# Altium footprint library 脉诊.PcbLib: 9 footprints
Each footprint in its own frame and in the unit in brackets; x right, y up, seen from the top. Pads: shape width x height; smd on the part's side, far side on the other; paste and mask are expansions set on the pad; w line width, h text height; cw(c..) or ccw(c..) is an arc to the next point about the centre after c.
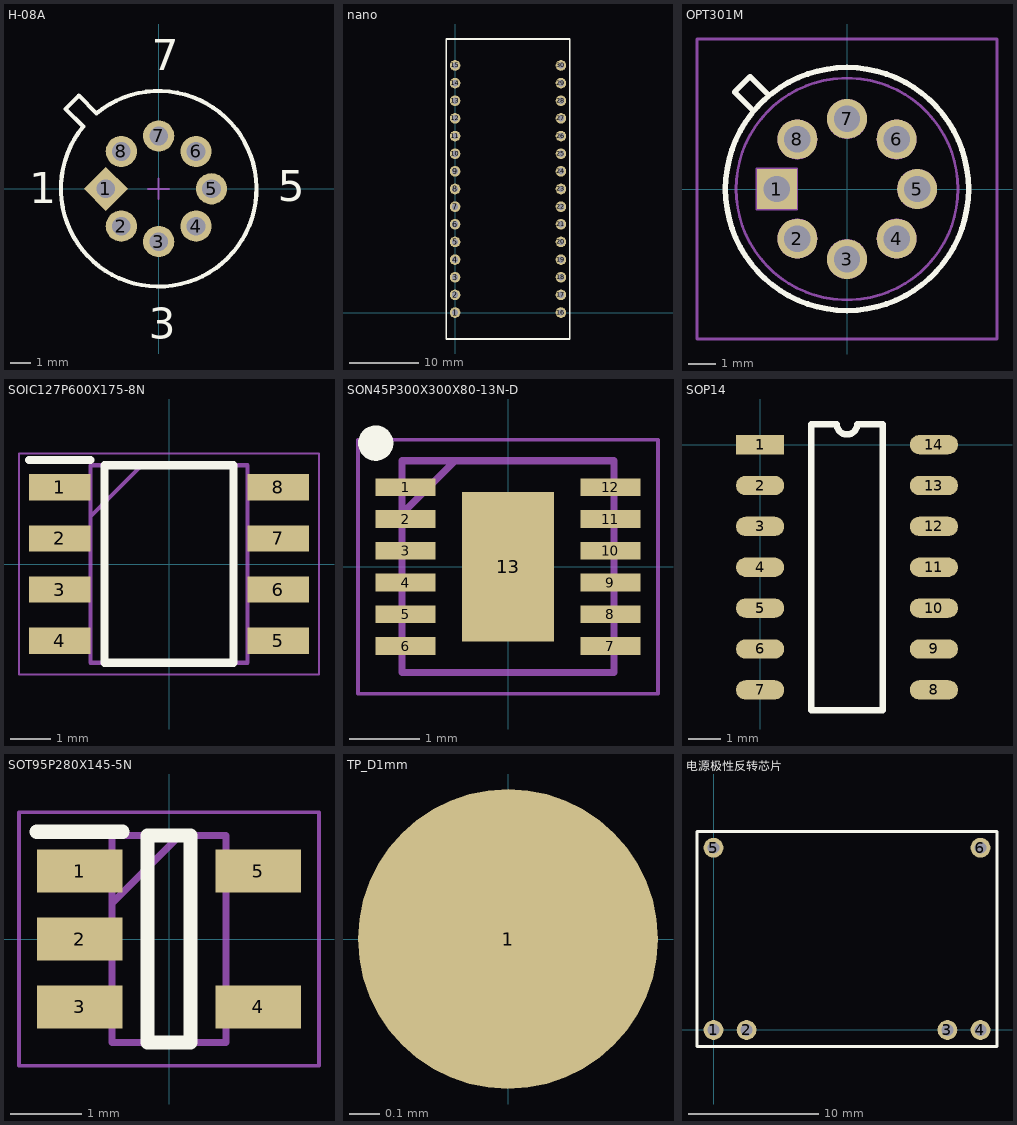
[diagram p0: the footprints below, top view; thin cyan lines are the x and y axes]

## H-08A [mm] "Can; 8 Leads; Pin Circle Dia. 5.08 mm; Lead Dia. 0.53 mm (max)"
height 4.7
pads (8):
  rect 1.5x1.5 hole 0.9 rot 45: 1(-2.54,0)
  round 1.5 hole 0.9: 2(-1.796,-1.796) 3(0,-2.54) 4(1.796,-1.796) 5(2.54,0) 6(1.796,1.796) 7(0,2.54) 8(-1.796,1.796)
Top Overlay:
  lines w0.2: -4.475,3.838 -3.838,4.475 -2.99,3.626 cw(c0,0) -3.626,2.99 -4.475,3.838
  text "1" at -6.22,-0.696 h1.5
  text "3" at -0.469,-7.22 h1.5
  text "5" at 5.712,-0.589 h1.5
  text "7" at -0.332,5.7 h1.5
Mechanical 15:
  lines w0.1: -0.5,0 0.5,0 ; 0,-0.5 0,0.5

## nano [mil]
pads (30):
  round 60 hole 36: 1(0,0) 2(0,100) 3(0,200) 4(0,300) 5(0,400) 6(0,500) 7(0,600) 8(0,700) 9(0,800) 10(0,900) 11(0,1000) 12(0,1100) 13(0,1200) 14(0,1300) 15(0,1400) 16(600,0) 17(600,100) 18(600,200) 19(600,300) 20(600,400) 21(600,500) 22(600,600) 23(600,700) 24(600,800) 25(600,900) 26(600,1000) 27(600,1100) 28(600,1200) 29(600,1300) 30(600,1400)
Top Overlay:
  lines w10: -50,-150 650,-150 650,1550 -50,1550 -50,-150

## OPT301M [mm]
pads (8):
  rect 1.45x1.45 hole 0.95: 1(-2.54,0)
  round 1.45 hole 0.95: 2(-1.796,-1.796) 3(0,-2.54) 4(1.796,-1.796) 5(2.54,0) 6(1.796,1.796) 7(0,2.54) 8(-1.796,1.796)
Top Overlay:
  lines w0.2: -3.452,2.887 -4.069,3.503 -3.503,4.069 -2.887,3.452 ; -4.4,0 cw(c0,0) 4.4,0 cw(c0,0) -4.4,0
Mechanical 13:
  lines w0.1: -3.436,2.871 -4.089,3.523 -3.523,4.089 -2.871,3.436 ; -4.428,0 cw(c0,0) 4.428,0 cw(c0,0) -4.428,0 ; -4.015,0 cw(c0,0) 4.015,0 cw(c0,0) -4.015,0 ; -3.265,-0.725 -3.265,0.725 -1.815,0.725 -1.815,-0.725 -3.265,-0.725 ; -2.471,-1.796 cw(c-1.796,-1.796) -1.121,-1.796 cw(c-1.796,-1.796) -2.471,-1.796 ; -2.471,1.796 cw(c-1.796,1.796) -1.121,1.796 cw(c-1.796,1.796) -2.471,1.796 ; -0.675,-2.54 cw(c0,-2.54) 0.675,-2.54 cw(c0,-2.54) -0.675,-2.54 ; -0.675,2.54 cw(c0,2.54) 0.675,2.54 cw(c0,2.54) -0.675,2.54 ; 1.121,-1.796 cw(c1.796,-1.796) 2.471,-1.796 cw(c1.796,-1.796) 1.121,-1.796 ; 1.121,1.796 cw(c1.796,1.796) 2.471,1.796 cw(c1.796,1.796) 1.121,1.796 ; 1.865,0 cw(c2.54,0) 3.215,0 cw(c2.54,0) 1.865,0
Mechanical 15:
  lines w0.1: -5.428,-5.428 -5.428,5.428 5.428,5.428 5.428,-5.428 -5.428,-5.428
3D body "OPA128LM.stp": height 7.62, standoff -9.52, extent -4.572,-4.542 4.572,5.542

## SOIC127P600X175-8N [mm]
pads (8):
  rect 1.528x0.65 smd: 1(-2.711,1.905) 2(-2.711,0.635) 3(-2.711,-0.635) 4(-2.711,-1.905) 5(2.711,-1.905) 6(2.711,-0.635) 7(2.711,0.635) 8(2.711,1.905)
Top Overlay:
  lines w0.2: -3.475,2.58 -1.948,2.58 ; -1.598,-2.452 -1.598,2.452 1.598,2.452 1.598,-2.452 -1.598,-2.452
Mechanical 13:
  lines w0.1: -1.948,1.182 -0.678,2.452 ; -1.948,-2.452 -1.948,2.452 1.948,2.452 1.948,-2.452 -1.948,-2.452
Mechanical 15:
  lines w0.05: -3.725,-2.75 -3.725,2.75 3.725,2.75 3.725,-2.75 -3.725,-2.75
3D body "LMV358MX_NOPB.stp": height 1.63, standoff 0, extent -3.011,-2.451 3.011,2.451

## SON45P300X300X80-13N-D [mm]
pads (13):
  rect 0.85x0.25 smd: 1(-1.45,1.125) 2(-1.45,0.675) 3(-1.45,0.225) 4(-1.45,-0.225) 5(-1.45,-0.675) 6(-1.45,-1.125) 7(1.45,-1.125) 8(1.45,-0.675) 9(1.45,-0.225) 10(1.45,0.225) 11(1.45,0.675) 12(1.45,1.125)
  rect 1.31x2.12 smd: 13(0,0)
Top Overlay:
  circle w0.25: c-1.875,1.75 r0.125
Mechanical 13:
  lines w0.1: -1.5,0.75 -0.75,1.5 ; -1.5,-1.5 -1.5,1.5 1.5,1.5 1.5,-1.5 -1.5,-1.5
Mechanical 15:
  lines w0.05: -2.125,-1.8 -2.125,1.8 2.125,1.8 2.125,-1.8 -2.125,-1.8
3D body "TPS65133DPDR.stp": height 0.8, standoff 0, extent -1.5,-1.49 1.5,1.51

## SOP14 [mm]
pads (14):
  rect 1.5x0.6 smd: 1(0,0)
  oval 1.5x0.6 smd: 2(0,-1.27) 3(0,-2.54) 4(0,-3.81) 5(0,-5.08) 6(0,-6.35) 7(0,-7.62) 8(5.4,-7.62) 9(5.4,-6.35) 10(5.4,-5.08) 11(5.4,-3.81) 12(5.4,-2.54) 13(5.4,-1.27) 14(5.4,0)
Top Overlay:
  lines w0.2: 1.585,-8.255 1.585,0.635 2.382,0.635 ccw(c2.7,0.635) 3.017,0.635 3.815,0.635 3.815,-8.255 1.585,-8.255

## SOT95P280X145-5N [mm]
pads (5):
  rect 1.2x0.6 smd: 1(-1.25,0.95) 2(-1.25,0) 3(-1.25,-0.95) 4(1.25,-0.95) 5(1.25,0.95)
Top Overlay:
  lines w0.2: -1.85,1.5 -0.65,1.5 ; -0.3,-1.45 -0.3,1.45 0.3,1.45 0.3,-1.45 -0.3,-1.45
Mechanical 13:
  lines w0.1: -0.8,0.5 0.15,1.45 ; -0.8,-1.45 -0.8,1.45 0.8,1.45 0.8,-1.45 -0.8,-1.45
Mechanical 15:
  lines w0.05: -2.1,-1.775 -2.1,1.775 2.1,1.775 2.1,-1.775 -2.1,-1.775
3D body "TLV62569DBVR.stp": height 1.2, standoff 0, extent -1.4,-1.45 1.4,1.45

## TP_D1mm [mm]
pads (1):
  round 1 smd: 1(0,0)

## 电源极性反转芯片 [mil]
pads (6):
  round 60 hole 36: 1(0,0) 2(100,0) 3(707,0) 4(807,0) 5(0,551) 6(807,551)
Top Overlay:
  lines w10: -50,-50 -50,600 857,600 857,-50 -50,-50